# EAGLE library part 4-LED-LINE (library Optoelektronik)
LED-Line mit 4 LED (HLMP-2550, grün, Distrelec 25 15 04)
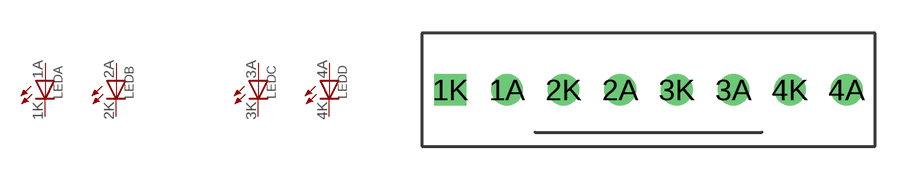
[diagram p0: symbol with the pads of 4_LED_LINE; footprint 4_LED_LINE]

Designator prefix LED; gates A=LED_LEDLINE B=LED_LEDLINE C=LED_LEDLINE D=LED_LEDLINE

## 4-LED-LINE (ARTIKELNUMMER: 25 15 04; FARBE: grün; LIEFERANT: Distrelec)  [4_LED_LINE]
1A  A:A  pas
1K  A:K  pas
2A  B:A  pas
2K  B:K  pas
3A  C:A  pas
3K  C:K  pas
4A  D:A  pas
4K  D:K  pas

## Footprint 4_LED_LINE (pad centres in mm)
drill 0.8 pad 1.422: 1A -6.35,0; 2A -1.27,0; 2K -3.81,0; 3A 3.81,0; 3K 1.27,0; 4A 8.89,0; 4K 6.35,0
drill 0.8 pad 1.422 square: 1K -8.89,0